# Altium footprint library Resistors.PcbLib: 79 footprints (part 2 of 5)
Each footprint in its own frame and in the unit in brackets; x right, y up, seen from the top. Pads: shape width x height; smd on the part's side, far side on the other; paste and mask are expansions set on the pad; w line width, h text height; cw(c..) or ccw(c..) is an arc to the next point about the centre after c.
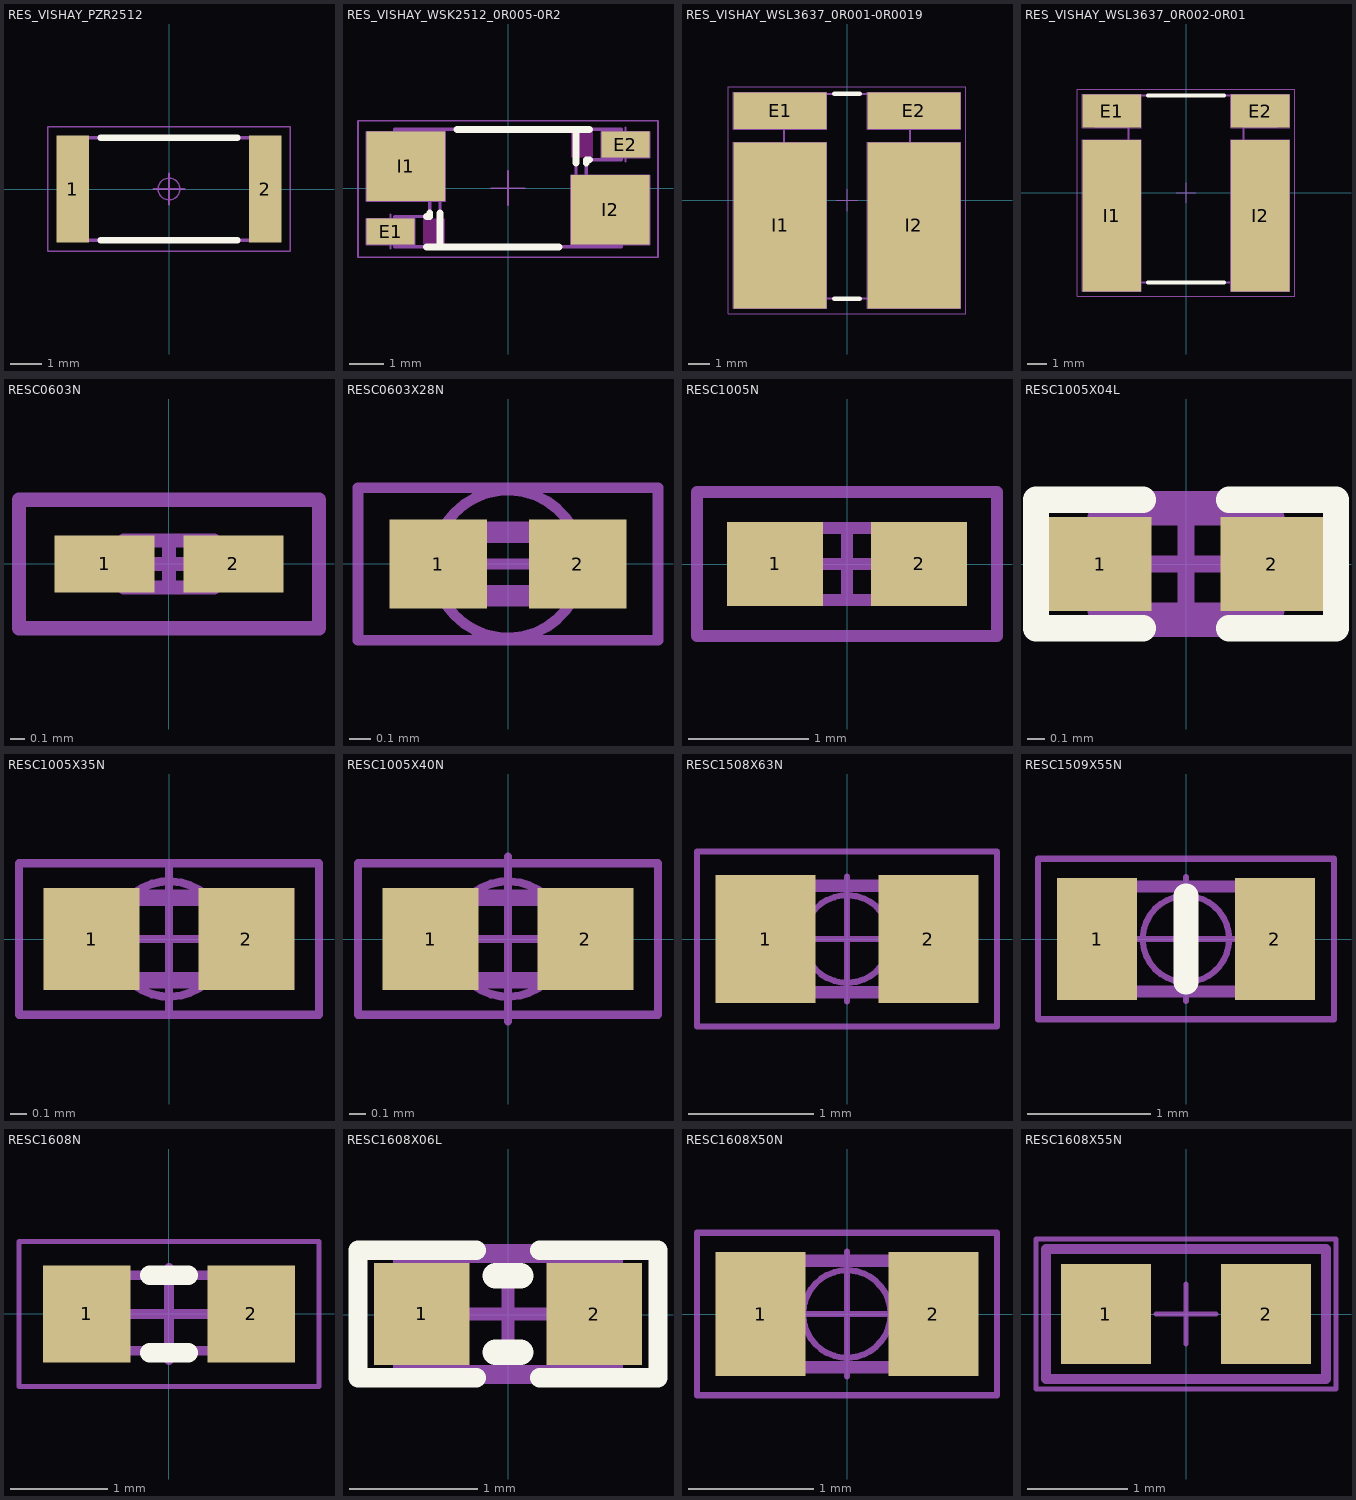
[diagram p1: the footprints below, top view; thin cyan lines are the x and y axes]

## RES_VISHAY_PZR2512 [mm] "EIA 2512, Metric 6433, Resistor, Chip; 6.35mm L X 3.30mm W X 0.627mm H, IPC Medium Density"
height 0.627
pads (2):
  rect 1.05x3.45 smd: 1(-3.1,0) 2(3.1,0)
Top Overlay:
  lines w0.2: -2.2,-1.65 2.2,-1.65 ; -2.2,1.65 2.2,1.65
3D Bottom:
  lines w0.1: -3.175,-1.65 -3.175,1.65 3.175,1.65 3.175,-1.65 -3.175,-1.65
Courtyard Top:
  circle w0.05: c0,0 r0.35
  lines w0.05: -0.5,0 0.5,0 ; 0,-0.5 0,0.5 ; -3.9,-2 -3.9,2 3.9,2 3.9,-2 -3.9,-2
3D body: height 0.63, standoff 0, extent -3.175,-1.65 3.175,1.65

## RES_VISHAY_WSK2512_0R005-0R2 [mm] "EIA 2512, Metric 6332, Current Sense Resistor, Chip, 0.89mm H, IPC Medium Density"
height 0.89
pads (4):
  rect 1.4x0.76 smd: E1(-3.43,-1.27) E2(3.43,1.27)
  rect 2.29x2.03 smd: I1(-2.985,0.635) I2(2.985,-0.635)
Top Layer keep-out:
  rectangle: -2.48,-1.65 -1.84,-0.89
  region: 2.48,1.65 1.84,1.65 1.84,0.89 2.48,0.89
Top Overlay:
  lines w0.2: -2.38,-1.717 -1.985,-1.717 ; -2.38,-0.828 -2.286,-0.828 -2.286,-0.73 ; -1.49,1.717 1.985,1.717 ; 1.49,-1.717 -1.985,-1.717 ; 1.985,0.73 1.985,1.717 ; 2.286,0.73 2.286,0.828 2.38,0.828 ; 2.38,1.717 1.985,1.717 ; -1.985,-1.717 -1.985,-0.73 -1.985,-1.717
Assembly Top:
  lines w0.05: -3.93,-1.27 -3.43,-1.27 ; -3.485,0.635 -2.985,0.635 ; -3.43,-1.77 -3.43,-1.27 ; -3.43,-0.77 -3.43,-1.27 ; -2.985,0.135 -2.985,0.635 ; -2.985,1.135 -2.985,0.635 ; -2.93,-1.27 -3.43,-1.27 ; -2.485,0.635 -2.985,0.635 ; -0.5,0 0,0 ; 0,-0.5 0,0 ; 0,0.5 0,0 ; 0.5,0 0,0 ; 2.485,-0.635 2.985,-0.635 ; 2.93,1.27 3.43,1.27 ; 2.985,-1.135 2.985,-0.635 ; 2.985,-0.135 2.985,-0.635 ; 3.43,0.77 3.43,1.27 ; 3.43,1.77 3.43,1.27 ; 3.485,-0.635 2.985,-0.635 ; 3.93,1.27 3.43,1.27 ; -4.13,-1.65 -4.13,-0.89 -2.73,-0.89 -2.73,-1.65 -4.13,-1.65 ; -4.13,-0.38 -1.84,-0.38 -1.84,1.65 -4.13,1.65 -4.13,-0.38 ; 1.84,-1.65 1.84,0.38 4.13,0.38 4.13,-1.65 1.84,-1.65 ; 2.73,0.89 4.13,0.89 4.13,1.65 2.73,1.65 2.73,0.89
3D Bottom:
  lines w0.1: -1.985,-1.717 -1.985,1.717 ; -1.985,-1.717 1.985,-1.717 ; -1.985,-1.717 -3.302,-1.717 -3.302,-0.828 -2.286,-0.828 -2.286,-0.32 -3.302,-0.32 -3.302,1.717 -1.985,1.717 ; -1.985,-1.717 -1.985,1.717 ; -1.985,1.717 1.985,1.717 ; 1.985,-1.717 1.985,1.717 ; 1.985,-1.717 1.985,1.717 ; 1.985,-1.717 3.302,-1.717 3.302,0.32 2.286,0.32 2.286,0.828 3.302,0.828 3.302,1.717 1.985,1.717
Courtyard Top:
  lines w0.05: -4.38,-2.02 4.38,-2.02 4.38,1.967 -4.38,1.967 -4.38,-2.02
3D body: height 0.89, standoff 0, extent -3.302,-1.717 3.302,1.717

## RES_VISHAY_WSL3637_0R001-0R0019 [mm] "EIA 3637, Metric 9194, Current Sense Resistor, Chip, 0.89mm H, IPC Medium Density"
height 0.89
pads (4):
  rect 4.27x1.68 smd: E1(-3.075,4.115) E2(3.075,4.115)
  rect 4.27x7.62 smd: I1(-3.075,-1.145) I2(3.075,-1.145)
Top Overlay:
  lines w0.2: -0.59,-4.51 0.59,-4.51 ; -0.59,4.89 0.59,4.89
Assembly Top:
  lines w0.05: -3.575,-1.145 -3.075,-1.145 ; -3.575,4.115 -3.075,4.115 ; -3.075,-1.645 -3.075,-1.145 ; -3.075,-0.645 -3.075,-1.145 ; -3.075,3.615 -3.075,4.115 ; -3.075,4.615 -3.075,4.115 ; -2.575,-1.145 -3.075,-1.145 ; -2.575,4.115 -3.075,4.115 ; -0.5,0 0,0 ; 0,-0.5 0,0 ; 0,0.5 0,0 ; 0.5,0 0,0 ; 2.575,4.115 3.075,4.115 ; 3.075,3.615 3.075,4.115 ; 3.075,4.615 3.075,4.115 ; 3.575,4.115 3.075,4.115 ; 3.075,-1.145 3.075,-0.645 3.075,-1.145 ; 3.075,-1.145 3.075,-1.645 3.075,-1.145 ; 3.075,-1.145 3.575,-1.145 3.075,-1.145 ; 3.075,-1.145 2.575,-1.145 3.075,-1.145 ; -5.21,-4.955 -0.94,-4.955 -0.94,2.665 -5.21,2.665 -5.21,-4.955 ; -5.21,3.275 -5.21,4.955 -0.94,4.955 -0.94,3.275 -5.21,3.275 ; 0.94,-4.955 5.21,-4.955 5.21,2.665 0.94,2.665 0.94,-4.955 ; 0.94,3.275 0.94,4.955 5.21,4.955 5.21,3.275 0.94,3.275
3D Bottom:
  lines w0.1: -4.57,-4.51 -4.57,2.527 -2.89,2.527 -2.89,3.34 -4.57,3.34 -4.57,4.89 0,4.89 4.57,4.89 4.57,3.34 2.89,3.34 2.89,2.527 4.57,2.527 4.57,-4.51 0,-4.51 -4.57,-4.51
Courtyard Top:
  lines w0.05: -5.46,-5.205 -5.21,-5.205 5.21,-5.205 5.46,-5.205 5.46,4.955 5.46,5.205 -5.21,5.205 -5.46,5.205 -5.46,-5.205
3D body: height 0.89, standoff 0, extent -4.57,-4.51 4.57,4.89

## RES_VISHAY_WSL3637_0R002-0R01 [mm] "EIA 3637, Metric 9194, Current Sense Resistor, Chip, 0.89mm H, IPC Medium Density"
height 0.89
pads (4):
  rect 2.95x1.68 smd: E1(-3.735,4.115) E2(3.735,4.115)
  rect 2.95x7.62 smd: I1(-3.735,-1.145) I2(3.735,-1.145)
Top Overlay:
  lines w0.2: -1.91,-4.51 1.91,-4.51 ; -1.91,4.89 1.91,4.89
Assembly Top:
  lines w0.05: -4.235,-1.145 -3.735,-1.145 ; -4.235,4.115 -3.735,4.115 ; -3.735,-1.645 -3.735,-1.145 ; -3.735,-0.645 -3.735,-1.145 ; -3.735,3.615 -3.735,4.115 ; -3.735,4.615 -3.735,4.115 ; -3.235,-1.145 -3.735,-1.145 ; -3.235,4.115 -3.735,4.115 ; -0.5,0 0,0 ; 0,-0.5 0,0 ; 0,0.5 0,0 ; 0.5,0 0,0 ; 3.235,4.115 3.735,4.115 ; 3.735,3.615 3.735,4.115 ; 3.735,4.615 3.735,4.115 ; 4.235,4.115 3.735,4.115 ; 3.735,-1.145 3.735,-0.645 3.735,-1.145 ; 3.735,-1.145 3.735,-1.645 3.735,-1.145 ; 3.735,-1.145 4.235,-1.145 3.735,-1.145 ; 3.735,-1.145 3.235,-1.145 3.735,-1.145 ; -5.21,-4.955 -2.26,-4.955 -2.26,2.665 -5.21,2.665 -5.21,-4.955 ; -5.21,3.275 -5.21,4.955 -2.26,4.955 -2.26,3.275 -5.21,3.275 ; 2.26,-4.955 5.21,-4.955 5.21,2.665 2.26,2.665 2.26,-4.955 ; 2.26,3.275 2.26,4.955 5.21,4.955 5.21,3.275 2.26,3.275
3D Bottom:
  lines w0.1: -4.57,-4.51 -4.57,2.527 -2.89,2.527 -2.89,3.34 -4.57,3.34 -4.57,4.89 0,4.89 4.57,4.89 4.57,3.34 2.89,3.34 2.89,2.527 4.57,2.527 4.57,-4.51 0,-4.51 -4.57,-4.51
Courtyard Top:
  lines w0.05: -5.46,-5.205 -5.21,-5.205 5.21,-5.205 5.46,-5.205 5.46,4.955 5.46,5.205 -5.21,5.205 -5.46,5.205 -5.46,-5.205
3D body: height 0.89, standoff 0, extent -4.57,-4.51 4.57,4.89

## RESC0603N [mm] "Chip Resistor, Body 0.6x0.3mm, IPC Medium Density"
height 0.3
pads (2):
  rect 0.7x0.4 smd: 1(-0.45,0) 2(0.45,0)
3D Top:
  lines w0.1: -0.315,-0.165 0.315,-0.165 0.315,0.165 -0.315,0.165 -0.315,-0.165
Courtyard Top:
  lines w0.1: -0.165,0 0.165,0 ; 0,-0.165 0,0.165 ; -1.05,-0.45 1.05,-0.45 1.05,0.45 -1.05,0.45 -1.05,-0.45
3D body: height 0.3, standoff 0, extent -0.315,-0.165 0.315,0.165

## RESC0603X28N [mm] "Chip Resistor, EIA 0201, Metric 0603, Body 0.6 x 0.3mm, IPC Medium Density"
height 0.28
pads (2):
  rect 0.46x0.42 smd: 1(-0.33,0) 2(0.33,0)
3D Bottom:
  lines w0.1: -0.3,-0.15 0.3,-0.15 0.3,0.15 -0.3,0.15 -0.3,-0.15
Courtyard Top:
  circle w0.05: c0,0 r0.35
  lines w0.05: -0.5,0 0.5,0 ; -0.71,-0.36 0.71,-0.36 0.71,0.36 -0.71,0.36 -0.71,-0.36
3D body: height 0.28, standoff 0, extent -0.325,-0.175 0.325,0.175

## RESC1005N [mm] "Chip Resistor, Body 1.1x0.5mm, IPC Medium Density"
height 0.4
pads (2):
  rect 0.8x0.7 smd: 1(-0.6,0) 2(0.6,0)
3D Top:
  lines w0.1: -0.55,-0.3 0.55,-0.3 0.55,0.3 -0.55,0.3 -0.55,-0.3
Courtyard Top:
  lines w0.1: -0.3,0 0.3,0 ; 0,-0.3 0,0.3 ; -1.25,-0.6 1.25,-0.6 1.25,0.6 -1.25,0.6 -1.25,-0.6
3D body: height 0.4, standoff 0, extent -0.55,-0.3 0.55,0.3

## RESC1005X04L [mm] "Chip Resistor, 2-Leads, Body 1.0x0.5mm, IPC High Density"
height 0.4
pads (2):
  rect 0.6x0.55 smd: 1(-0.5,0) 2(0.5,0)
Top Overlay:
  lines w0.152: -0.25,-0.375 -0.875,-0.375 -0.875,0.375 -0.25,0.375 ; 0.25,-0.375 0.875,-0.375 0.875,0.375 0.25,0.375
3D Top:
  lines w0.1: -0.525,-0.275 -0.525,0.275 0.525,0.275 0.525,-0.275 -0.525,-0.275
Courtyard Top:
  lines w0.1: -0.275,0 0.275,0 ; 0,-0.275 0,0.275 ; -0.875,-0.375 0.875,-0.375 0.875,0.375 -0.875,0.375 -0.875,-0.375
3D body: height 0.3, standoff 0, extent -0.5,-0.25 0.5,0.25

## RESC1005X35N [mm] "Chip Resistor, EIA 0402, Metric 1005, Body 1.0x0.5mm, IPC Medium Density"
height 0.35
pads (2):
  rect 0.58x0.62 smd: 1(-0.47,0) 2(0.47,0)
3D Bottom:
  lines w0.1: -0.5,-0.25 0.5,-0.25 0.5,0.25 -0.5,0.25 -0.5,-0.25
Courtyard Top:
  circle w0.05: c0,0 r0.35
  lines w0.05: -0.5,0 0.5,0 ; 0,-0.46 0,0.46 ; -0.91,-0.46 0.91,-0.46 0.91,0.46 -0.91,0.46 -0.91,-0.46
3D body: height 0.35, standoff 0, extent -0.525,-0.275 0.525,0.275

## RESC1005X40N [mm] "Chip Resistor, EIA 0402, Metric 1005, Body 1.0x0.5mm, IPC Medium Density"
height 0.4
pads (2):
  rect 0.58x0.62 smd: 1(-0.47,0) 2(0.47,0)
3D Bottom:
  lines w0.1: -0.5,-0.25 -0.5,0.25 0.5,0.25 0.5,-0.25 -0.5,-0.25
Courtyard Top:
  circle w0.05: c0,0 r0.35
  lines w0.05: -0.5,0 0.5,0 ; 0,-0.5 0,0.5 ; -0.91,-0.46 -0.91,0.46 0.91,0.46 0.91,-0.46 -0.91,-0.46
3D body: height 0.4, standoff 0, extent -0.525,-0.275 0.525,0.275

## RESC1508X63N [mm] "Chip Resistor, EIA 0603, Metric 1608, Body 1.5x0.8mm, IPC Medium Density"
height 0.63
pads (2):
  rect 0.8x1.02 smd: 1(-0.65,0) 2(0.65,0)
3D Bottom:
  lines w0.1: -0.76,-0.425 -0.76,0.425 0.76,0.425 0.76,-0.425 -0.76,-0.425
Courtyard Top:
  circle w0.05: c0,0 r0.35
  lines w0.05: -0.5,0 0.5,0 ; 0,-0.5 0,0.5 ; -1.2,-0.7 -1.2,0.7 1.2,0.7 1.2,-0.7 -1.2,-0.7
3D body: height 0.63, standoff 0, extent -0.76,-0.425 0.76,0.425

## RESC1509X55N [mm] "Chip Resistor, EIA 0603, Metric 1608, 1.55mm L X 0.85mm W X 0.55mm H, IPC Medium Density"
height 0.55
pads (2):
  rect 0.65x0.99 smd: 1(-0.72,0) 2(0.72,0)
Top Overlay:
  lines w0.2: 0,-0.35 0,0.35
3D Bottom:
  lines w0.1: -0.775,-0.425 -0.775,0.425 0.775,0.425 0.775,-0.425 -0.775,-0.425
Courtyard Top:
  circle w0.05: c0,0 r0.35
  lines w0.05: -0.5,0 0.5,0 ; 0,-0.5 0,0.5 ; -1.2,-0.65 -1.2,0.65 1.2,0.65 1.2,-0.65 -1.2,-0.65
3D body: height 0.55, standoff 0, extent -0.775,-0.425 0.775,0.425

## RESC1608N [mm] "Chip Resistor, Body 1.6x0.8mm, IPC Medium Density"
height 0.6
pads (2):
  rect 0.9x1 smd: 1(-0.85,0) 2(0.85,0)
Top Overlay:
  lines w0.2: -0.2,-0.4 0.2,-0.4 ; -0.2,0.4 0.2,0.4
Assembly Text Top:
  text ".Designator" at -0.659,-0.215 h0.75
Assembly Top:
  lines w0.1: -0.8,-0.381 -0.8,0.4 0.8,0.4 0.8,-0.381 -0.8,-0.381
Courtyard Top:
  lines w0.05: -1.55,-0.75 -1.55,0.75 1.55,0.75 1.55,-0.75 -1.55,-0.75
  lines w0.1: -0.475,0 0.475,0 ; 0,-0.475 0,0.475
3D body: height 0.45, standoff 0, extent -0.8,-0.4 0.8,0.4

## RESC1608X06L [mm]
pads (2):
  rect 0.75x0.8 smd: 1(-0.675,0.004) 2(0.675,0.004)
Top Overlay:
  lines w0.152: -0.25,-0.496 -1.175,-0.496 -1.175,0.504 -0.25,0.504 ; 0.25,-0.496 1.175,-0.496 1.175,0.504 0.25,0.504
  lines w0.2: -0.1,-0.296 0.1,-0.296 ; -0.1,0.304 0.1,0.304
3D Top:
  lines w0.1: -0.85,-0.446 -0.85,0.454 0.85,0.454 0.85,-0.446 -0.85,-0.446
Courtyard Top:
  lines w0.1: -0.45,0.004 0.45,0.004 ; 0,-0.446 0,0.454 ; -1.175,-0.496 1.175,-0.496 1.175,0.504 -1.175,0.504 -1.175,-0.496
3D body: height 0.45, standoff 0, extent -0.8,-0.396 0.8,0.404

## RESC1608X50N [mm] "Chip Resistor, EIA 0603, Metric 1608, Body 1.6x0.8mm, IPC Medium Density"
height 0.5
pads (2):
  rect 0.72x0.99 smd: 1(-0.69,0) 2(0.69,0)
3D Bottom:
  lines w0.1: -0.788,-0.425 0.788,-0.425 0.788,0.425 -0.788,0.425 -0.788,-0.425
Courtyard Top:
  circle w0.05: c0,0 r0.35
  lines w0.05: -0.5,0 0.5,0 ; 0,-0.5 0,0.5 ; -1.2,-0.65 1.2,-0.65 1.2,0.65 -1.2,0.65 -1.2,-0.65
3D body: height 0.5, standoff 0, extent -0.875,-0.475 0.875,0.475

## RESC1608X55N [mm] "Chip Resistor, EIA 0603, Metric 1608, Body 1.6x0.8mm, IPC Medium Density"
height 0.55
pads (2):
  rect 0.9x1 smd: 1(-0.8,0) 2(0.8,0)
3D Bottom:
  lines w0.1: -1.4,-0.65 -1.4,0.65 1.4,0.65 1.4,-0.65 -1.4,-0.65
Courtyard Top:
  lines w0.05: -0.3,0 0.3,0 ; 0,-0.3 0,0.3 ; -1.5,-0.75 1.5,-0.75 1.5,0.75 -1.5,0.75 -1.5,-0.75
3D body: height 0.55, standoff 0, extent -0.875,-0.475 0.875,0.475